# Altium footprint library XDCR_ICM-42670-P.PcbLib: 1 footprints
Each footprint in its own frame and in the unit in brackets; x right, y up, seen from the top. Pads: shape width x height; smd on the part's side, far side on the other; paste and mask are expansions set on the pad; w line width, h text height; cw(c..) or ccw(c..) is an arc to the next point about the centre after c.
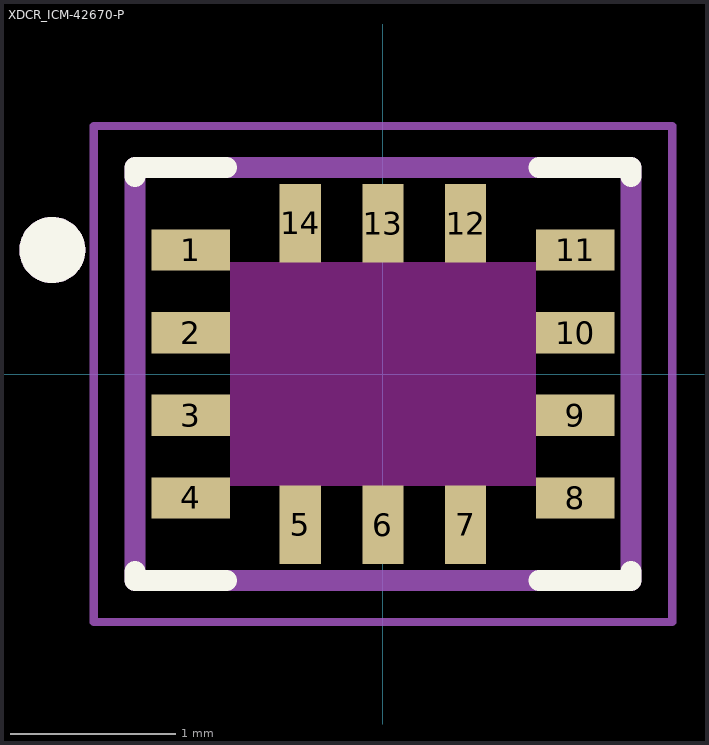
[diagram p0: the footprint, top view; thin cyan lines are the x and y axes]

## XDCR_ICM-42670-P [mm]
height 0.81
pads (14):
  rect 0.475x0.25 smd paste-1 mask+0.05: 1(-1.162,0.75) 2(-1.162,0.25) 3(-1.162,-0.25) 4(-1.162,-0.75) 8(1.162,-0.75) 9(1.162,-0.25) 10(1.162,0.25) 11(1.162,0.75)
  rect 0.25x0.475 smd paste-1 mask+0.05: 5(-0.5,-0.913) 6(0,-0.913) 7(0.5,-0.913) 12(0.5,0.913) 13(0,0.913) 14(-0.5,0.913)
Top Overlay:
  circle w0.2: c-2,0.75 r0.1
  lines w0.127: -1.5,-1.195 -1.5,-1.25 -0.945,-1.25 ; -1.5,1.195 -1.5,1.25 -0.945,1.25 ; 0.945,-1.25 1.5,-1.25 1.5,-1.195 ; 0.945,1.25 1.5,1.25 1.5,1.195
Top Paste:
  region: -0.937,0.131 -1.388,0.131 -1.388,0.369 -0.937,0.369
  region: -0.937,-0.369 -1.388,-0.369 -1.388,-0.131 -0.937,-0.131
  region: -0.937,-0.869 -1.388,-0.869 -1.388,-0.631 -0.937,-0.631
  region: -0.937,0.631 -1.388,0.631 -1.388,0.869 -0.937,0.869
  region: 1.388,0.131 0.937,0.131 0.937,0.369 1.388,0.369
  region: 1.388,-0.369 0.937,-0.369 0.937,-0.131 1.388,-0.131
  region: 1.388,-0.869 0.937,-0.869 0.937,-0.631 1.388,-0.631
  region: 1.388,0.631 0.937,0.631 0.937,0.869 1.388,0.869
  region: 0.119,0.687 -0.119,0.687 -0.119,1.138 0.119,1.138
  region: 0.619,0.687 0.381,0.687 0.381,1.138 0.619,1.138
  region: -0.381,0.687 -0.619,0.687 -0.619,1.138 -0.381,1.138
  region: 0.119,-1.138 -0.119,-1.138 -0.119,-0.687 0.119,-0.687
  region: 0.619,-1.138 0.381,-1.138 0.381,-0.687 0.619,-0.687
  region: -0.381,-1.138 -0.619,-1.138 -0.619,-0.687 -0.381,-0.687
Keep-Out Layer:
  region: 0.925,-0.675 -0.925,-0.675 -0.925,0.675 0.925,0.675
Mechanical 13:
  circle w0.2: c-2,0.75 r0.1
  lines w0.127: -1.5,-1.25 1.5,-1.25 1.5,1.25 -1.5,1.25 -1.5,-1.25
Mechanical 15:
  lines w0.05: -1.75,-1.5 -1.75,1.5 1.75,1.5 1.75,-1.5 -1.75,-1.5
3D body "step_temp.STEP": height 0.81, standoff 0, extent -1.5,-1.25 1.5,1.25